# EAGLE library part MICROSDCARD_CONNECTOR (library Zoli2_2015-02-22)
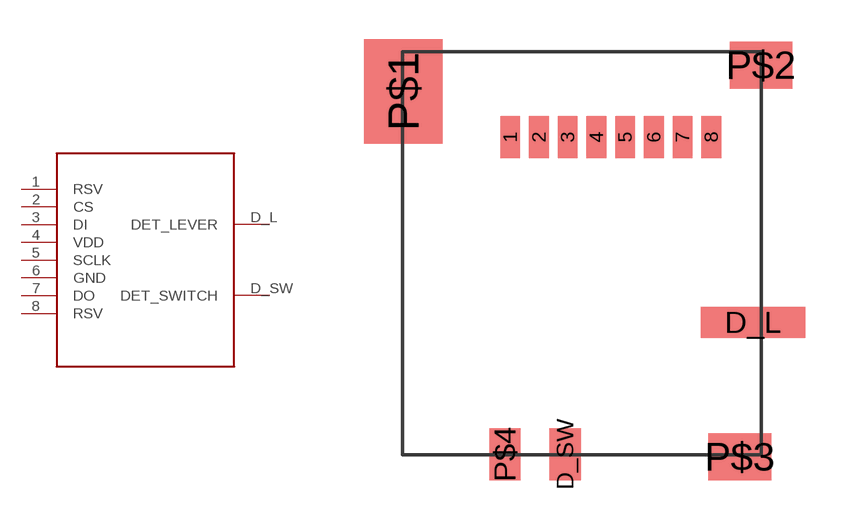
[diagram p64: symbol with the pads of MICROSDCARD_CONNECTOR; footprint MICROSDCARD_CONNECTOR]

Designator prefix -

## MICROSDCARD_CONNECTOR  [MICROSDCARD_CONNECTOR]
1  RSV
2  CS  in
3  DI  in
4  VDD  pwr
5  SCLK  in
6  GND  pwr
7  DO  out
8  RSV
D_L  DET_LEVER
D_SW  DET_SWITCH

## Footprint MICROSDCARD_CONNECTOR (pad centres in mm)
smd 0.75 x 1.6: 1 -2.75,4.45; 2 -1.65,4.45; 3 -0.55,4.45; 4 0.55,4.45; 5 1.65,4.45; 6 2.75,4.45; 7 3.85,4.45; 8 4.95,4.45
smd 4 x 1.2: D_L 6.55,-2.65
smd 1.2 x 2: D_SW -0.65,-7.7; P$4 -2.95,-7.7
smd 3 x 4: P$1 -6.85,6.2
smd 2.4 x 1.8: P$2 6.85,7.2; P$3 6.04,-7.8